# Altium footprint library Diodes.PcbLib: 2 footprints
Each footprint in its own frame and in the unit in brackets; x right, y up, seen from the top. Pads: shape width x height; smd on the part's side, far side on the other; paste and mask are expansions set on the pad; w line width, h text height; cw(c..) or ccw(c..) is an arc to the next point about the centre after c.
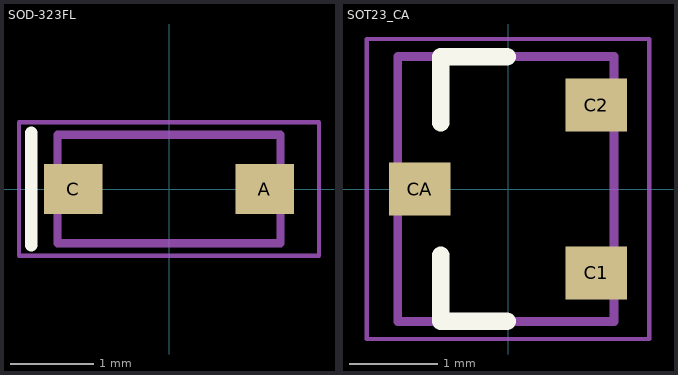
[diagram p0: the footprints below, top view; thin cyan lines are the x and y axes]

## SOD-323FL [mm]
pads (2):
  rect 0.7x0.6 smd: A(1.15,0) C(-1.15,0)
Top Overlay:
  lines w0.15: -1.651,-0.673 -1.651,0.254 -1.651,0.673
Top Assembly:
  lines w0.1: -1.338,-0.65 1.338,-0.65 1.338,0.65 -1.338,0.65 -1.338,-0.65
Top Courtyard:
  lines w0.05: -1.8,-0.8 1.8,-0.8 1.8,0.8 -1.8,0.8 -1.8,-0.8
Top Designator:
  text ".Designator" at -3.999,-0.267 h0.8
3D body "1N4148WS.STEP": height 1.15, standoff 0, extent -1.338,-0.65 1.338,0.65

## SOT23_CA [mm]
pads (3):
  rect 0.7x0.6 smd: C1(1,-0.95) C2(1,0.95) CA(-1,0)
Top Overlay:
  lines w0.2: -0.762,-0.75 -0.762,-1.5 -0.012,-1.5 ; -0.762,0.75 -0.762,1.5 -0.012,1.5
Top Assembly:
  lines w0.1: -1.25,-1.5 1.2,-1.5 1.2,1.5 -1.25,1.5 -1.25,-1.5
Top Courtyard:
  lines w0.05: -1.6,-1.7 1.6,-1.7 1.6,1.7 -1.6,1.7 -1.6,-1.7
Top Designator:
  text ".Designator" at -3.999,-0.267 h0.8
3D body "CircuitWorks-SOT-23.step": height 1.1, standoff 0, extent -1.25,-1.5 1.25,1.5